# Altium footprint library controle de luminosidade com ESP32.PcbLib: 22 footprints (part 2 of 2)
Each footprint in its own frame and in the unit in brackets; x right, y up, seen from the top. Pads: shape width x height; smd on the part's side, far side on the other; paste and mask are expansions set on the pad; w line width, h text height; cw(c..) or ccw(c..) is an arc to the next point about the centre after c.
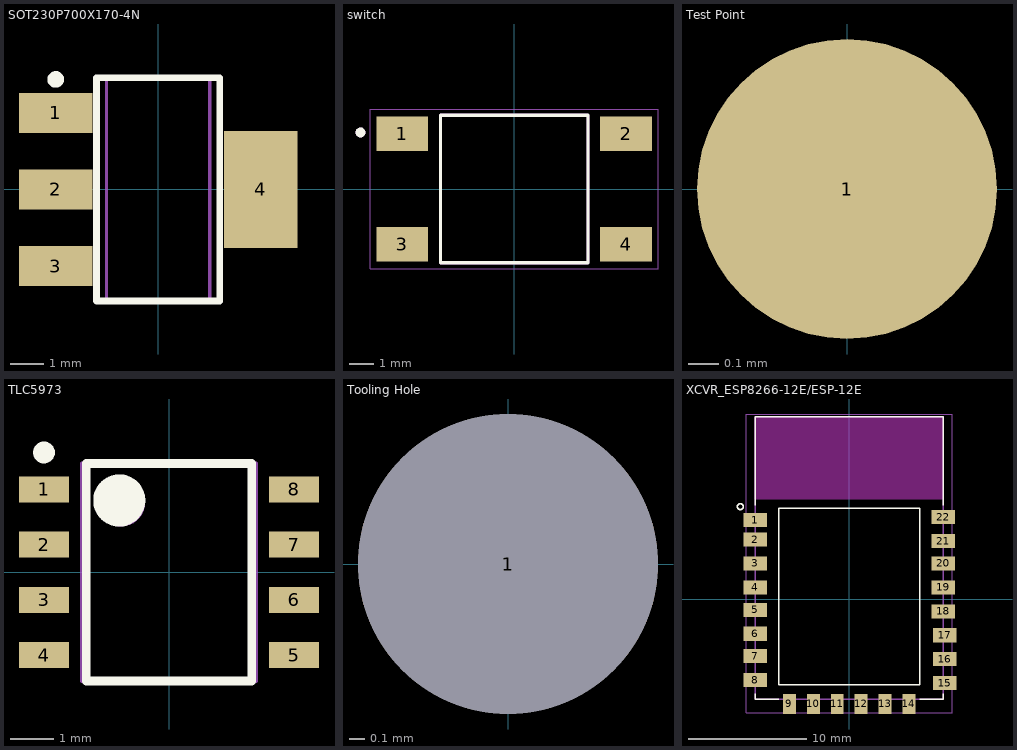
[diagram p1: the footprints below, top view; thin cyan lines are the x and y axes]

## SOT230P700X170-4N [mm] "SOT223, 4-Leads, Body 6.50x7.00mm (avg), Pitch 2.30mm, IPC Medium Density"
height 1.7
pads (4):
  rect 2.2x1.2 smd: 1(-3.075,2.3) 2(-3.075,0) 3(-3.075,-2.3)
  rect 2.2x3.5 smd: 4(3.075,0)
Top Overlay:
  circle w0.25: c-3.075,3.3 r0.125
  lines w0.2: -1.85,-3.35 -1.85,3.35 1.85,3.35 1.85,-3.35 -1.85,-3.35
Mechanical 13:
  lines w0.1: -1.55,-3.35 -1.55,3.35 1.55,3.35 1.55,-3.35 -1.55,-3.35
Mechanical 29:
  text "'.Designator'" at -1.27,-0.127 h1
3D body "SOT230P700X170-4N.step": height 1.7, standoff 0, extent -3.5,-3.35 3.5,3.35

## switch [mm]
pads (4):
  rect 2.1x1.4 smd: 1(-4.55,2.25) 2(4.55,2.25) 3(-4.55,-2.25) 4(4.55,-2.25)
Top Overlay:
  circle w0.2: c-6.25,2.3 r0.1
  lines w0.127: -3,-3 3,-3 3,3 -3,3 -3,-3
Mechanical 13:
  circle w0.2: c-6.25,2.3 r0.1
  lines w0.127: -3,-3 -3,3 3,3 3,-3 -3,-3
Mechanical 15:
  lines w0.05: -5.85,-3.25 -5.85,3.25 5.85,3.25 5.85,-3.25 -5.85,-3.25
Mechanical 29:
  text "''.Designator'" at -2.667,-0.508 h0.5

## Test Point [mm]
pads (1):
  round 1 smd paste-1: 1(0,0)

## TLC5973 [mm] "SOIC, 8-Leads, Body 4.91x3.90mm, Pitch 1.27mm, IPC Medium Density"
height 0.25
pads (8):
  rect 1.15x0.6 smd: 1(-2.875,1.905) 2(-2.875,0.635) 3(-2.875,-0.635) 4(-2.875,-1.905) 5(2.875,-1.905) 6(2.875,-0.635) 7(2.875,0.635) 8(2.875,1.905)
Top Overlay:
  circle w0.25: c-2.875,2.755 r0.125
  circle w0.6: c-1.143,1.651 r0.3
  lines w0.2: -1.9,-2.5 -1.9,2.5 1.9,2.5 1.9,-2.5 -1.9,-2.5
Mechanical 1:
  circle w0.1: c-1.1,1.6 r0.5
  lines w0.1: -2,-2.5 -2,2.5 2,2.5 2,-2.5 -2,-2.5
Mechanical 29:
  text "'.Designator'" at -0.127,-2.286 h0.5
3D body "SOIC127P600X25-8N.step": height 1.04, standoff 0, extent -3.017,-2.5 3.018,2.5

## Tooling Hole [mm]
pads (1):
  round 2 hole 2 unplated: 1(0,0)

## XCVR_ESP8266-12E/ESP-12E [mm]
pads (22):
  rect 2x1.2 smd: 1(-8.001,6.731) 2(-8.001,5.08) 3(-8.001,3.048) 4(-8.001,1.016) 5(-8.001,-0.889) 6(-8.001,-2.921) 7(-8.001,-4.826) 8(-8.001,-6.858) 15(8.128,-7.112) 16(8.128,-5.08) 17(8.128,-3.048) 18(8.001,-1.016) 19(8.001,1.016) 20(8.001,3.048) 21(8.001,4.953) 22(8.001,6.985)
  rect 1.1x1.7 smd: 9(-5.08,-8.89) 10(-3.048,-8.89) 11(-1.016,-8.89) 12(1.016,-8.89) 13(3.048,-8.89) 14(5.08,-8.89)
Top Overlay:
  circle w0.127: c-9.25,7.875 r0.25
  lines w0.127: -8,-8 -8,-8.5 -6,-8.5 ; -8,8 -8,15.5 8,15.5 8,8 ; 6,-8.5 8,-8.5 8,-8 ; -6,-7.26 -6,7.74 6,7.74 6,-7.26 -6,-7.26
Keep-Out Layer:
  region: 8,8.51 -8.009,8.51 -8.009,15.5 8,15.5
  region: 8,8.51 -8.009,8.51 -8.009,15.5 8,15.5
Mechanical 15:
  lines w0.05: -8.75,-9.625 -8.75,15.75 8.75,15.75 8.75,-9.625 -8.75,-9.625
Mechanical 29:
  lines w0.127: -8,-8.5 -8,15.5 8,15.5 8,-8.5 -8,-8.5
  text "'.Designator'" at -5.842,1.397 h2.6